# Altium footprint library PCB_Passive.PcbLib: 45 footprints (part 3 of 3)
Each footprint in its own frame and in the unit in brackets; x right, y up, seen from the top. Pads: shape width x height; smd on the part's side, far side on the other; paste and mask are expansions set on the pad; w line width, h text height; cw(c..) or ccw(c..) is an arc to the next point about the centre after c.
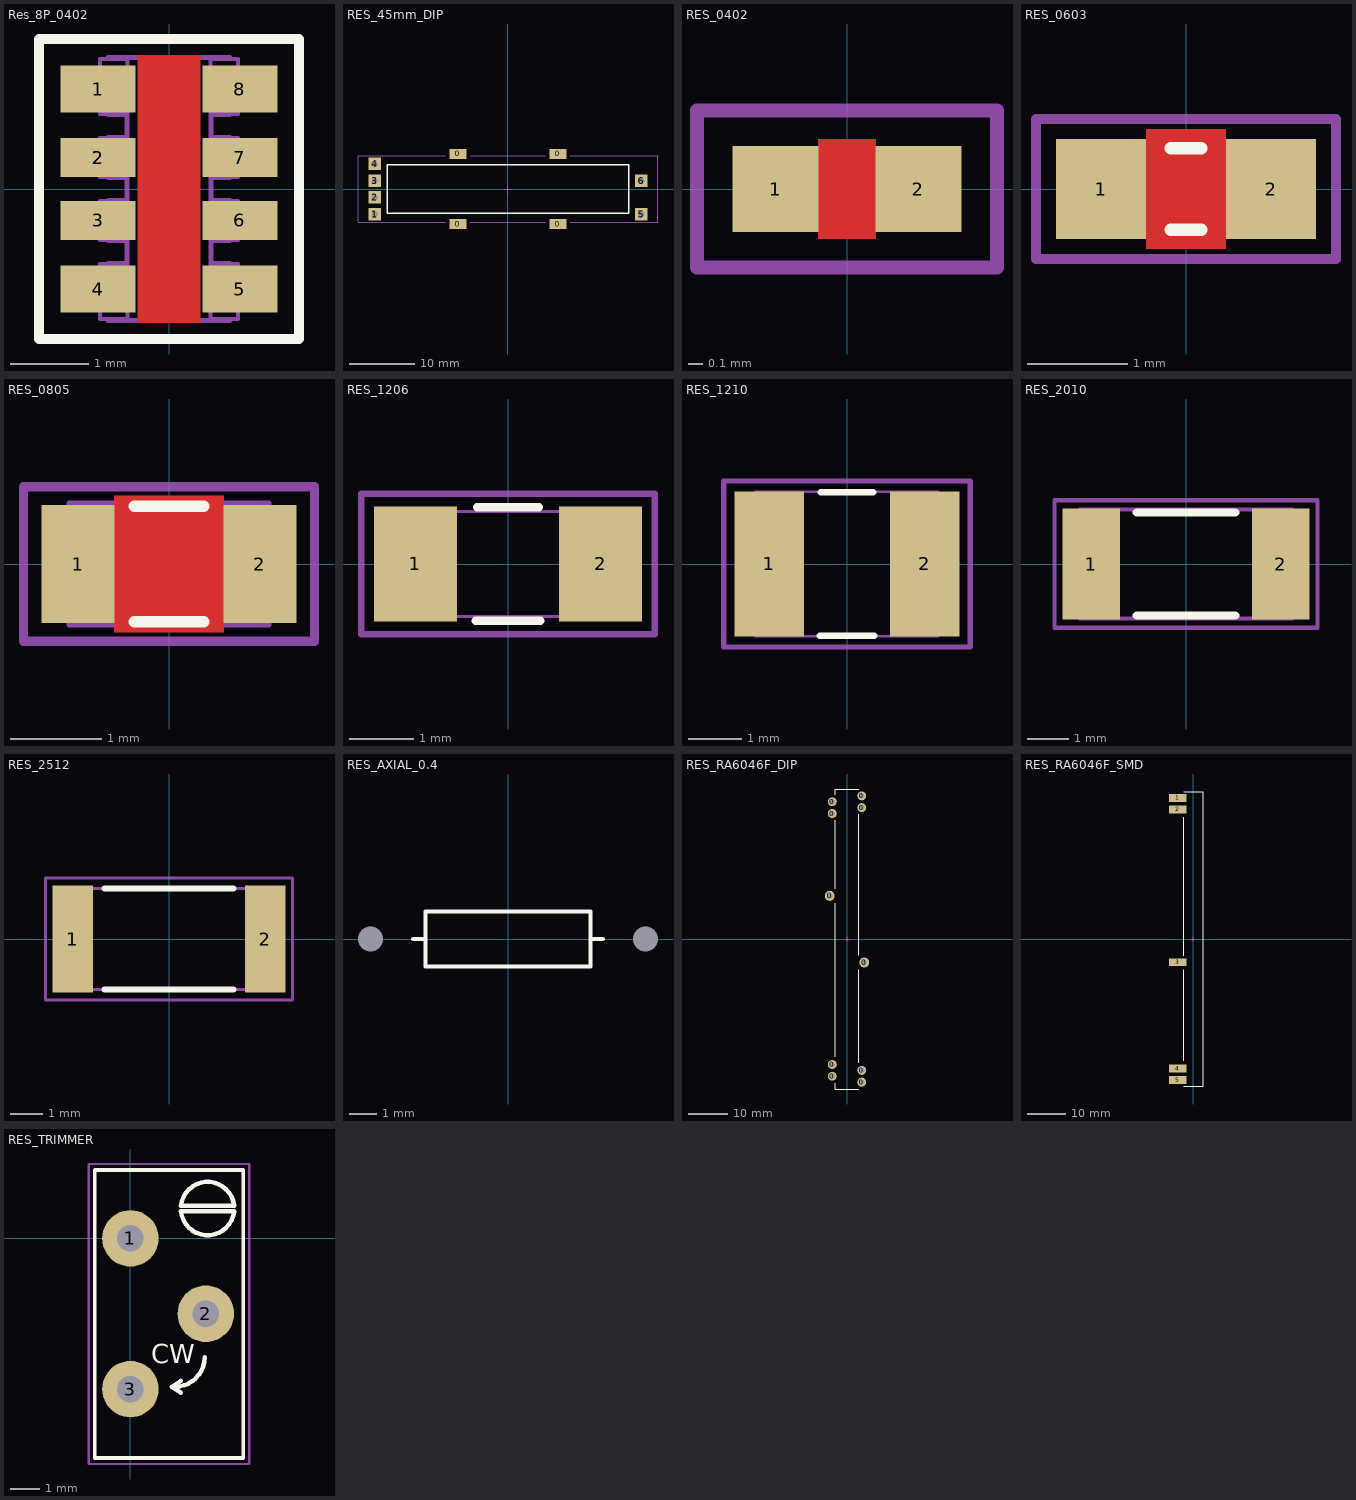
[diagram p2: the footprints below, top view; thin cyan lines are the x and y axes]

## Res_8P_0402 [mm]
pads (8):
  rect 0.95x0.6 smd: 1(-0.9,1.27) 4(-0.9,-1.27) 5(0.9,-1.27) 8(0.9,1.27)
  rect 0.95x0.5 smd: 2(-0.9,0.4) 3(-0.9,-0.4) 6(0.9,-0.4) 7(0.9,0.4)
Top Layer:
  pour cut-out: -0.4,1.7 0.4,1.7 0.4,-1.7 -0.4,-1.7
Top Overlay:
  lines w0.127: -1.651,-1.905 1.651,-1.905 1.651,1.905 -1.651,1.905 -1.651,-1.905
Top Solder:
  region: 1.3,1.2 0.5,1.2 0.5,-1.2 1.3,-1.2
  rectangle: -1.3,-1.2 -0.5,1.2
Mechanical 13:
  lines w0.05: -0.775,-1.65 -0.775,-1.675 0.775,-1.675 0.775,-1.65 ; -0.775,-0.95 -0.775,-0.938 -0.537,-0.938 -0.537,-0.663 -0.775,-0.663 -0.775,-0.65 ; -0.775,-0.15 -0.775,-0.138 -0.537,-0.138 -0.537,0.138 -0.775,0.138 -0.775,0.15 ; -0.775,0.65 -0.775,0.663 -0.537,0.663 -0.537,0.938 -0.775,0.938 -0.775,0.95 ; -0.775,1.65 -0.775,1.675 0.775,1.675 0.775,1.65 ; -0.525,-1.65 -0.875,-1.65 -0.875,-0.95 -0.525,-0.95 ; -0.525,-0.65 -0.875,-0.65 -0.875,-0.15 -0.525,-0.15 ; -0.525,0.15 -0.875,0.15 -0.875,0.65 -0.525,0.65 ; -0.525,0.95 -0.875,0.95 -0.875,1.65 -0.525,1.65 ; 0.525,-1.65 0.875,-1.65 0.875,-0.95 0.525,-0.95 ; 0.525,-0.65 0.875,-0.65 0.875,-0.15 0.525,-0.15 ; 0.525,0.15 0.875,0.15 0.875,0.65 0.525,0.65 ; 0.525,0.95 0.875,0.95 0.875,1.65 0.525,1.65 ; 0.775,-0.95 0.775,-0.938 0.537,-0.938 0.537,-0.663 0.775,-0.663 0.775,-0.65 ; 0.775,-0.15 0.775,-0.138 0.537,-0.138 0.537,0.138 0.775,0.138 0.775,0.15 ; 0.775,0.65 0.775,0.663 0.537,0.663 0.537,0.938 0.775,0.938 0.775,0.95 ; -0.525,-1.663 -0.525,1.663 0.525,1.663 0.525,-1.663 -0.525,-1.663
3D body: height 0.7, standoff 0, extent -0.875,-1.675 0.875,1.675

## RES_45mm_DIP [mil]
pads (10):
  rect 100x60 smd: 0(-300,-210) 0(-300,210) 0(300,-210) 0(300,210)
  rect 75x75 hole 39.37: 1(-800,-150) 2(-800,-50) 3(-800,50) 4(-800,150) 5(800,-150) 6(800,50)
Top Overlay:
  lines w10: -725,-145 -725,145 725,145 725,-145 -725,-145
Mechanical 13:
  lines w2: -25,0 0,0 ; 0,-25 0,0 ; 0,25 0,0 ; 25,0 0,0
  lines w4: -375,-200 -900,-200 -900,200 -375,200 ; -225,-200 225,-200 ; -225,200 225,200 ; 375,-200 900,-200 900,200 375,200

## RES_0402 [mm] "Chip Resistor, Body 1.0x0.5mm, EIA 0402, IPC Medium Density"
height 0.4
pads (2):
  rect 0.6x0.6 smd: 1(-0.5,0) 2(0.5,0)
Top Layer:
  pour cut-out: -0.2,0.35 0.2,0.35 0.2,-0.35 -0.2,-0.35
Mechanical 13:
  lines w0.05: 0.225,-0.274 -0.225,-0.274 0.225,-0.274 ; -0.525,-0.275 -0.225,-0.275 -0.225,0.275 -0.525,0.275 -0.525,-0.275 ; -0.225,0.274 0.225,0.274 -0.225,0.274 ; 0.225,-0.275 0.225,0.275 0.525,0.275 0.525,-0.275 0.225,-0.275
Mechanical 14:
  lines w0.1: -1.05,-0.55 1.05,-0.55 1.05,0.55 -1.05,0.55 -1.05,-0.55
3D body: height 0.4, standoff 0, extent -0.525,-0.275 0.525,0.275

## RES_0603 [mm]
height 0.8
pads (2):
  rect 0.9x1 smd: 1(-0.85,0) 2(0.85,0)
Top Layer:
  pour cut-out: -0.4,0.6 0.4,0.6 0.4,-0.6 -0.4,-0.6
Top Overlay:
  lines w0.127: -0.152,-0.406 0.152,-0.406 ; -0.152,0.406 0.152,0.406
Mechanical 13:
  lines w0.05: -0.875,-0.475 -0.475,-0.475 -0.475,0.475 -0.875,0.475 -0.875,-0.475 ; -0.475,-0.474 0.475,-0.474 -0.475,-0.474 ; -0.475,0.474 0.475,0.474 -0.475,0.474 ; 0.475,-0.475 0.475,0.475 0.875,0.475 0.875,-0.475 0.475,-0.475
Mechanical 14:
  lines w0.1: -1.5,-0.7 -1.5,0.7 1.5,0.7 1.5,-0.7 -1.5,-0.7
3D body: height 0.54, standoff -0.01, extent -0.875,-0.475 0.875,0.475

## RES_0805 [mm] "Chip Resistor, Body 2.0x1.2mm, 0805, IPC Medium Density"
height 0.7
pads (2):
  rect 0.8x1.3 smd: 1(-1,0) 2(1,0)
Top Layer:
  pour cut-out: -0.6,0.75 0.6,0.75 0.6,-0.75 -0.6,-0.75
Top Overlay:
  lines w0.127: -0.381,-0.635 0.381,-0.635 ; -0.381,0.635 0.381,0.635
Mechanical 13:
  lines w0.05: 0.6,-0.674 -0.6,-0.674 ; -0.6,-0.674 0.6,-0.674 ; -0.6,-0.675 -1.1,-0.675 -1.1,0.675 -0.6,0.675 -0.6,-0.675 ; 0.6,-0.675 1.1,-0.675 1.1,0.675 0.6,0.675 ; 0.6,-0.675 0.6,0.675 ; 0.6,0.674 -0.6,0.674 0.6,0.674
Mechanical 14:
  lines w0.1: -1.6,-0.85 -1.6,0.85 1.6,0.85 1.6,-0.85 -1.6,-0.85
3D body: height 0.69, standoff -0.01, extent -1.1,-0.675 1.1,0.675

## RES_1206 [mm] "Chip Resistor, Body 3.2x1.6mm, 1206, IPC Medium Density"
height 0.7
pads (2):
  rect 1.3x1.8 smd: 1(-1.45,0) 2(1.45,0)
Top Overlay:
  lines w0.127: -0.508,-0.889 0.508,-0.889 ; -0.483,0.889 0.483,0.889
Mechanical 13:
  lines w0.05: 1.025,-0.824 -1.025,-0.824 1.025,-0.824 ; -1.625,-0.825 -1.625,0.825 -1.025,0.825 -1.025,-0.825 -1.625,-0.825 ; -1.025,0.824 1.025,0.824 -1.025,0.824 ; 1.025,-0.825 1.625,-0.825 1.625,0.825 1.025,0.825 1.025,-0.825
Mechanical 14:
  lines w0.1: -2.3,-1.1 2.3,-1.1 2.3,1.1 -2.3,1.1 -2.3,-1.1
3D body: height 0.69, standoff -0.01, extent -1.625,-0.825 1.625,0.825

## RES_1210 [mm] "Chip Resistor, Body 3.2x2.5mm, 1210, IPC Medium Density"
height 0.7
pads (2):
  rect 1.3x2.7 smd: 1(-1.45,0) 2(1.45,0)
Top Overlay:
  lines w0.127: -0.508,-1.339 0.508,-1.339 ; -0.483,1.339 0.483,1.339
Mechanical 13:
  lines w0.05: -1.7,-1.35 -1.1,-1.35 -1.1,1.35 -1.7,1.35 -1.7,-1.35 ; -1.1,-1.349 1.1,-1.349 -1.1,-1.349 ; -1.1,1.349 1.1,1.349 -1.1,1.349 ; 1.1,-1.35 1.1,1.35 1.7,1.35 1.7,-1.35 1.1,-1.35
Mechanical 14:
  lines w0.1: -2.3,-1.55 -2.3,1.55 2.3,1.55 2.3,-1.55 -2.3,-1.55
3D body: height 0.69, standoff -0.01, extent -1.7,-1.35 1.7,1.35

## RES_2010 [mm] "Chip Resistor, Body 5.0x2.5mm, 2010, IPC Medium Density"
height 0.7
pads (2):
  rect 1.4x2.7 smd: 1(-2.3,0) 2(2.3,0)
Top Overlay:
  lines w0.2: -1.2,-1.25 1.2,-1.25 ; -1.2,1.25 1.2,1.25
Mechanical 13:
  lines w0.1: -2.575,-1.325 2.575,-1.325 2.575,1.325 -2.575,1.325 -2.575,-1.325
Mechanical 14:
  lines w0.1: -3.2,-1.55 3.2,-1.55 3.2,1.55 -3.2,1.55 -3.2,-1.55
3D body: height 0.69, standoff -0.01, extent -2.6,-1.35 2.6,1.35

## RES_2512 [mm] "Chip Resistor, Body 6.3x3.2mm, 2512, IPC Medium Density"
height 0.7
pads (2):
  rect 1.25x3.35 smd: 1(-3,0) 2(3,0)
Top Overlay:
  lines w0.2: -2,-1.575 2,-1.575 ; -2,1.575 2,1.575
Mechanical 13:
  lines w0.1: -3.15,-1.575 -3.15,1.575 3.15,1.575 3.15,-1.575 -3.15,-1.575
Mechanical 14:
  lines w0.1: -3.85,-1.9 -3.85,1.9 3.85,1.9 3.85,-1.9 -3.85,-1.9
3D body: height 0.69, standoff -0.01, extent -3.3,-1.7 3.3,1.7

## RES_AXIAL_0.4 [mil]
height 80
pads (2):
  round 0 / inner round 0 / far side round 100 hole 36 unplated: 1(-200,0) 2(200,0)
Top Overlay:
  lines w6: -137.8,0 -120,0 ; 120,0 137.8,0 ; -120,-40 120,-40 120,40 -120,40 -120,-40
3D body: height 102.23, standoff -100, extent -211.81,-50.27 211.81,50.27

## RES_RA6046F_DIP [mm]
pads (10):
  round 2.54 hole 1.5: 0(-4.4,11) 0(4.4,-6)
  round 2.286 hole 1.3: 0(-3.75,-35) 0(-3.75,-32) 0(-3.75,32) 0(-3.75,35) 0(3.75,-36.5) 0(3.75,-33.5) 0(3.75,33.5) 0(3.75,36.5)
Top Overlay:
  lines w0.254: -3.048,-36.754 -3.048,-38.252 3.048,-38.252 ; -3.048,-29.972 -3.048,9.119 ; -3.048,12.878 -3.048,30.251 ; -3.048,36.754 -3.048,38.252 3.048,38.252 ; 3.048,-31.496 3.048,-7.899 ; 3.048,-4.115 3.048,31.75
Mechanical 13:
  lines w0.051: -0.635,0 0,0 ; 0,-0.635 0,0 ; 0,0.635 0,0 ; 0.635,0 0,0

## RES_RA6046F_SMD [mil]
pads (5):
  rect 180x80 smd: 1(-160,1437.01) 2(-160,1318.9) 3(-160,-236.22) 4(-160,-1318.9) 5(-160,-1437.01)
Top Overlay:
  lines w10: -100,-1501 100,-1501 100,1501 -100,1501 ; -100,-1240 -100,-315 ; -100,-170 -100,1240
Mechanical 13:
  lines w2: -25,0 0,0 ; 0,-25 0,0 ; 0,25 0,0 ; 25,0 0,0

## RES_TRIMMER [mil] "TRIMMER, MURATA, PV36Y"
height 421.26
pads (3):
  round 75 hole 35: 1(0,0) 2(100,-100) 3(0,-200)
Top Overlay:
  lines w5: -47.24,-291.34 -47.24,90.55 149.61,90.55 149.61,-291.34 -47.24,-291.34
  lines w6: 58.86,-197.05 ccw(c58.86,-157.48) 98.43,-157.48 ; 66.93,-204.72 55.12,-197.05 66.93,-188.98 ; 67.07,35.81 137.65,35.81 ; 67.06,43.31 137.66,43.31 ; 67.12,43.3 cw(c102.36,39.55) 137.6,43.3 ; 67.13,35.81 ccw(c102.36,39.55) 137.59,35.81
  text "CW" at 27.56,-165.35 h25
Mechanical 13:
  lines w3: -47.24,-291.34 -47.24,90.55 149.61,90.55 149.61,-291.34 -47.24,-291.34
Mechanical 14:
  lines w3: -30,0 30,0 ; 0,-30 0,30 ; -55.12,-299.34 157.48,-299.34 157.48,98.66 -55.12,98.66 -55.12,-299.34
3D body: height 444.88, standoff -236.22, extent -47.24,-287.4 149.61,90.55